# Altium footprint library 31_lib.PcbLib: 49 footprints (part 2 of 4)
Each footprint in its own frame and in the unit in brackets; x right, y up, seen from the top. Pads: shape width x height; smd on the part's side, far side on the other; paste and mask are expansions set on the pad; w line width, h text height; cw(c..) or ccw(c..) is an arc to the next point about the centre after c.
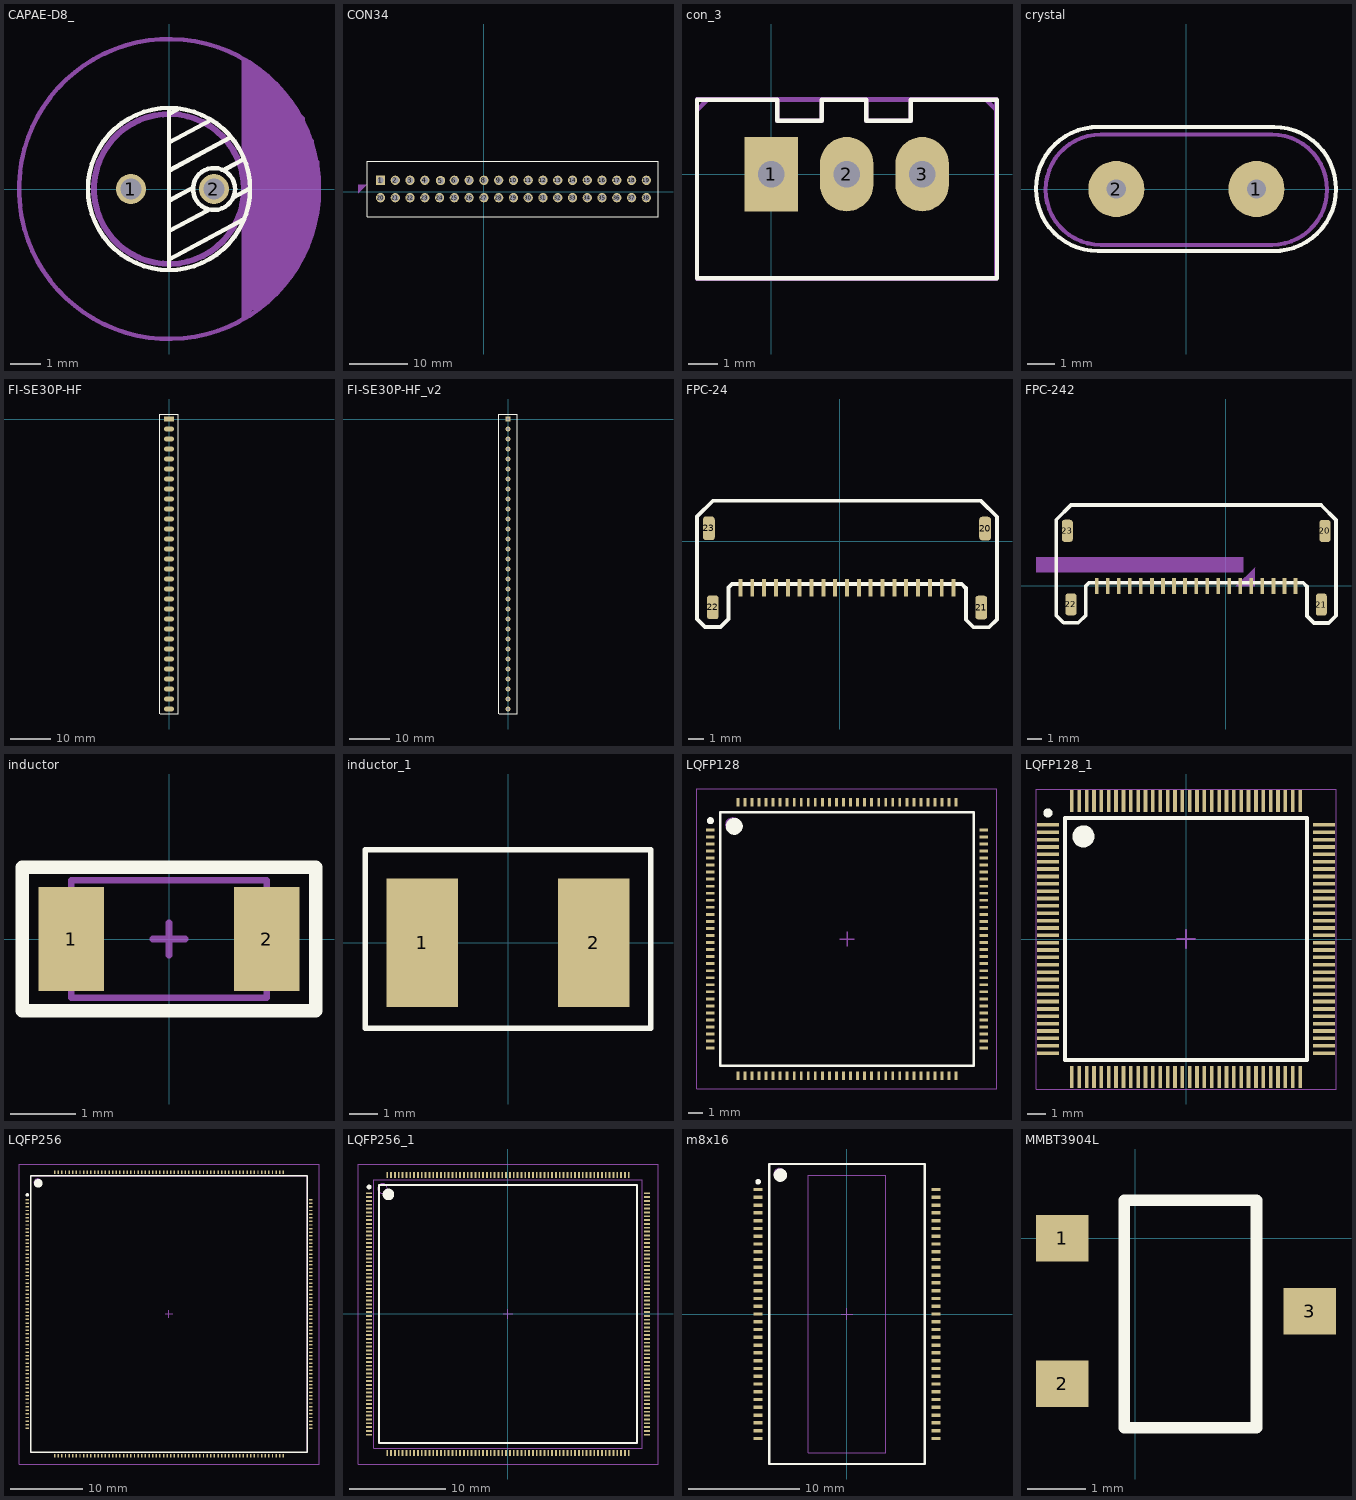
[diagram p1: the footprints below, top view; thin cyan lines are the x and y axes]

## CAPAE-D8_ [mm]
height 7.7
pads (2):
  round 1 hole 0.7: 1(-1.27,0) 2(1.5,0)
Top Overlay:
  circle w0.15: c0,0 r2.7
  circle w0.15: c1.5,0 r0.7
  lines w0.15: 0,-2.7 0,2.7 ; 0,-2.35 2.504,-1.007 ; 0,-1.4 1.286,-0.71 ; 0,1.55 1.399,2.301 ; 0,2.5 0.28,2.65 ; 0.025,-0.375 0.783,0.032 ; 0.025,0.625 2.048,1.711 ; 1.868,0.659 2.501,0.998 ; 2.141,-0.276 2.69,0.019
Mechanical 2:
  circle w0.2: c0,0 r2.5
Mechanical 29:
  circle w0.15: c0,0 r5
  region: 2.425,4.4 2.425,-4.35 2.475,-4.35 2.8,-4.025 3,-4.025 3.65,-3.375 3.65,-3.325 3.7,-3.325 4.05,-2.975 4.05,-2.85 4.375,-2.525 4.375,-2.275 4.6,-2.05 4.6,-1.825 4.775,-1.65 4.775,-1.175 4.95,-1 4.95,-0.15 5,-0.1 5,0.925 4.825,1.1 4.825,1.625 4.525,1.925 4.525,2.375 3.9,3 3.9,3.175 3.225,3.85
  text ".Designator" at -3.9,-0.3 h1

## CON34 [mm]
pads (38):
  rect 1.6x1.6 hole 1.1: 1(-17.72,2)
  round 1.6 hole 1.1: 2(-15.18,2) 3(-12.64,2) 4(-10.1,2) 5(-7.4,1.95) 6(-5.02,2) 7(-2.48,2) 8(0.06,2) 9(2.6,2) 10(5.14,2) 11(7.68,2) 12(10.22,2) 13(12.76,2) 14(15.3,2) 15(17.84,2) 16(20.38,2) 17(22.92,2) 18(25.46,2) 19(28,2) 20(-17.72,-1) 21(-15.18,-1) 22(-12.64,-1) 23(-10.1,-1) 24(-7.56,-1) 25(-5.02,-1) 26(-2.48,-1) 27(0.06,-1) 28(2.6,-1) 29(5.14,-1) 30(7.68,-1) 31(10.22,-1) 32(12.76,-1) 33(15.3,-1) 34(17.84,-1) 35(20.38,-1) 36(22.92,-1) 37(25.46,-1) 38(28,-1)
Top Overlay:
  lines w0.15: -20,0 -20,5.27 23.91,5.27 ; -20,1 -20,-4.27 23.91,-4.27 ; -14.19,-4.27 30,-4.27 30,1 ; -14.19,5.27 30,5.27 30,0
Mechanical 29:
  region: -21.59,1.27 -20.066,1.27 -21.59,-0.254
  text ".Designator" at -3.5,-0.3 h1

## con_3 [mm]
pads (3):
  rect 1.8x2.5 hole 0.9: 1(0,0)
  oval 1.8x2.5 hole 0.9: 2(2.54,0) 3(5.08,0)
Top Overlay:
  lines w0.15: -2.5,-3.5 7.6,-3.5 7.6,2.5 4.7,2.5 4.7,1.8 3.2,1.8 3.2,2.5 1.7,2.5 1.7,1.8 0.2,1.8 0.2,2.5 -2.5,2.5 -2.5,-3.5
Mechanical 29:
  lines w0.15: -2.5,-2.1 -2.5,1.825 ; 0.2,2.5 0.2,1.8 1.7,1.8 1.7,2.5 ; 3.2,2.5 3.2,1.8 4.7,1.8 4.7,2.5 ; 7.575,2.525 -2.5,2.525 -2.5,-3.525 7.58,-3.525 7.58,2.525 ; 7.58,-2.1 7.58,1.825 ; -2.5,-3.5 7.58,-3.5 7.58,2.15 7.23,2.5 -2.15,2.5 -2.5,2.15 -2.5,-3.5
  text ".Designator" at -1,-1.3 h1
3D body: height 7, standoff -3.5, extent -2.4,-3.375 7.5,2.375

## crystal [mil]
pads (2):
  round 80 hole 27.56: 1(100,0) 2(-100,0)
Top Overlay:
  lines w5.91: -126,-88.58 cw(c-126,0) -125.09,88.58 125,88.58 cw(c125,0) 124.07,-88.58 -126,-88.58
Mechanical 29:
  lines w5.91: -122.05,-79.72 cw(c-122.05,-0.98) -122.05,77.76 122.05,77.76 cw(c122.05,-0.98) 122.05,-79.72 -122.05,-79.72
  text ".Designator" at -125.98,-11.81 h39.37
3D body: height 137.8, standoff -118.11, extent -213.58,-89.57 211.61,87.6

## FI-SE30P-HF [mm]
pads (30):
  rect 2.5x1.2 smd: 1(0,0)
  oval 2.5x1.2 smd: 2(0,-2.5) 3(0,-5) 4(0,-7.5) 5(0,-10) 6(0,-12.5) 7(0,-15) 8(0,-17.5) 9(0,-20) 10(0,-22.5) 11(0,-25) 12(0,-27.5) 13(0,-30) 14(0,-32.5) 15(0,-35) 16(0,-37.5) 17(0,-40) 18(0,-42.5) 19(0,-45) 20(0,-47.5) 21(0,-50) 22(0,-52.5) 23(0,-55) 24(0,-57.5) 25(0,-60) 26(0,-62.5) 27(0,-65) 28(0,-67.5) 29(0,-70) 30(0,-72.5)
Top Overlay:
  lines w0.2: -2.25,-73.75 -2.25,1.25 2.25,1.25 2.25,-73.75 -2.25,-73.75

## FI-SE30P-HF_v2 [mm]
pads (30):
  rect 1.2x1.2 hole 0.8: 1(0,0)
  round 1.2 hole 0.8: 2(0,-2.5) 3(0,-5) 4(0,-7.5) 5(0,-10) 6(0,-12.5) 7(0,-15) 8(0,-17.5) 9(0,-20) 10(0,-22.5) 11(0,-25) 12(0,-27.5) 13(0,-30) 14(0,-32.5) 15(0,-35) 16(0,-37.5) 17(0,-40) 18(0,-42.5) 19(0,-45) 20(0,-47.5) 21(0,-50) 22(0,-52.5) 23(0,-55) 24(0,-57.5) 25(0,-60) 26(0,-62.5) 27(0,-65) 28(0,-67.5) 29(0,-70) 30(0,-72.5)
Top Overlay:
  lines w0.2: -2.25,-73.75 -2.25,1.25 2.25,1.25 2.25,-73.75 -2.25,-73.75

## FPC-24 [mm]
pads (23):
  rect 0.25x1.1 smd: 1(7.2,-2.95) 2(6.45,-2.95) 3(5.7,-2.95) 4(4.95,-2.95) 5(4.2,-2.95) 6(3.45,-2.95) 7(2.7,-2.95) 8(1.95,-2.95) 9(1.2,-2.95) 10(0.45,-2.95) 11(-0.3,-2.95) 12(-1.05,-2.95) 13(-1.8,-2.95) 14(-2.55,-2.95) 15(-3.3,-2.95) 16(-4.05,-2.95) 17(-4.8,-2.95) 18(-5.55,-2.95) 19(-6.3,-2.95)
  rrect50% 0.75x1.5 all layers, no hole: 20(9.2,0.788) 21(8.95,-4.212) 22(-8.05,-4.2) 23(-8.3,0.8)
Top Overlay:
  lines w0.25: 7.7,-2.725 -6.825,-2.725 -7.05,-2.95 -7.05,-4.95 -7.55,-5.45 -8.55,-5.45 -9.05,-4.95 -9.05,1.55 -8.05,2.55 8.95,2.55 ; 7.725,-2.737 7.95,-2.962 7.975,-2.987 7.975,-4.988 8.45,-5.462 9.45,-5.462 9.95,-4.962 9.95,1.538 8.95,2.538

## FPC-242 [mm]
pads (23):
  rect 0.25x1.1 smd: 1(4.75,0) 2(4,0) 3(3.25,0) 4(2.5,0) 5(1.75,0) 6(1,0) 7(0.25,0) 8(-0.5,0) 9(-1.25,0) 10(-2,0) 11(-2.75,0) 12(-3.5,0) 13(-4.25,0) 14(-5,0) 15(-5.75,0) 16(-6.5,0) 17(-7.25,0) 18(-8,0) 19(-8.75,0)
  rrect50% 0.75x1.5 all layers, no hole: 20(6.75,3.738) 21(6.5,-1.262) 22(-10.5,-1.25) 23(-10.75,3.75)
Top Overlay:
  lines w0.25: 5.25,0.225 -9.275,0.225 -9.5,0 -9.5,-2 -10,-2.5 -11,-2.5 -11.5,-2 -11.5,4.5 -10.5,5.5 6.5,5.5 ; 5.275,0.213 5.5,-0.012 5.525,-0.038 5.525,-2.038 6,-2.512 7,-2.512 7.5,-2.013 7.5,4.488 6.5,5.487
Mechanical 29:
  rectangle: -12.875,0.9 1.225,1.975
  region: 2,1.275 1.975,1.25 1.975,-0.025 0.7,-0.025
  text ".Designator" at -12.5,3.2 h1

## inductor [mm]
pads (2):
  rect 1x1.6 smd: 1(-1.5,0) 2(1.5,0)
Top Overlay:
  lines w0.2: -2.25,-1.1 -2.25,1.1 2.25,1.1 2.25,-1.1 -2.25,-1.1
Mechanical 13:
  lines w0.1: -1.5,-0.9 -1.5,0.9 1.5,0.9 1.5,-0.9 -1.5,-0.9
Mechanical 15:
  lines w0.1: -0.25,0 0.25,0 ; 0,-0.25 0,0.25 ; -2.25,-1.1 2.25,-1.1 2.25,1.1 -2.25,1.1 -2.25,-1.1

## inductor_1 [mm]
pads (2):
  rect 2.5x4.5 smd: 1(-3,0) 2(3,0)
Top Overlay:
  lines w0.2: -5,-3 -5,3.25 5,3.25 5,-3 -5,-3

## LQFP128 [mm]
height 1.6
pads (128):
  rect 0.6x0.2 smd: 1(-77.6,75.65) 2(-77.6,75.15) 3(-77.6,74.65) 4(-77.6,74.15) 5(-77.6,73.65) 6(-77.6,73.15) 7(-77.6,72.65) 8(-77.6,72.15) 9(-77.6,71.65) 10(-77.6,71.15) 11(-77.6,70.65) 12(-77.6,70.15) 13(-77.6,69.65) 14(-77.6,69.15) 15(-77.6,68.65) 16(-77.6,68.15) 17(-77.6,67.65) 18(-77.6,67.15) 19(-77.6,66.65) 20(-77.6,66.15) 21(-77.6,65.65) 22(-77.6,65.15) 23(-77.6,64.65) 24(-77.6,64.15) 25(-77.6,63.65) 26(-77.6,63.15) 27(-77.6,62.65) 28(-77.6,62.15) 29(-77.6,61.65) 30(-77.6,61.15) 31(-77.6,60.65) 32(-77.6,60.15) 65(-58.2,60.15) 66(-58.2,60.65) 67(-58.2,61.15) 68(-58.2,61.65) 69(-58.2,62.15) 70(-58.2,62.65) 71(-58.2,63.15) 72(-58.2,63.65) 73(-58.2,64.15) 74(-58.2,64.65) 75(-58.2,65.15) 76(-58.2,65.65) 77(-58.2,66.15) 78(-58.2,66.65) 79(-58.2,67.15) 80(-58.2,67.65) 81(-58.2,68.15) 82(-58.2,68.65) 83(-58.2,69.15) 84(-58.2,69.65) 85(-58.2,70.15) 86(-58.2,70.65) 87(-58.2,71.15) 88(-58.2,71.65) 89(-58.2,72.15) 90(-58.2,72.65) 91(-58.2,73.15) 92(-58.2,73.65) 93(-58.2,74.15) 94(-58.2,74.65) 95(-58.2,75.15) 96(-58.2,75.65)
  rect 0.2x0.6 smd: 33(-75.65,58.2) 34(-75.15,58.2) 35(-74.65,58.2) 36(-74.15,58.2) 37(-73.65,58.2) 38(-73.15,58.2) 39(-72.65,58.2) 40(-72.15,58.2) 41(-71.65,58.2) 42(-71.15,58.2) 43(-70.65,58.2) 44(-70.15,58.2) 45(-69.65,58.2) 46(-69.15,58.2) 47(-68.65,58.2) 48(-68.15,58.2) 49(-67.65,58.2) 50(-67.15,58.2) 51(-66.65,58.2) 52(-66.15,58.2) 53(-65.65,58.2) 54(-65.15,58.2) 55(-64.65,58.2) 56(-64.15,58.2) 57(-63.65,58.2) 58(-63.15,58.2) 59(-62.65,58.2) 60(-62.15,58.2) 61(-61.65,58.2) 62(-61.15,58.2) 63(-60.65,58.2) 64(-60.15,58.2) 97(-60.15,77.6) 98(-60.65,77.6) 99(-61.15,77.6) 100(-61.65,77.6) 101(-62.15,77.6) 102(-62.65,77.6) 103(-63.15,77.6) 104(-63.65,77.6) 105(-64.15,77.6) 106(-64.65,77.6) 107(-65.15,77.6) 108(-65.65,77.6) 109(-66.15,77.6) 110(-66.65,77.6) 111(-67.15,77.6) 112(-67.65,77.6) 113(-68.15,77.6) 114(-68.65,77.6) 115(-69.15,77.6) 116(-69.65,77.6) 117(-70.15,77.6) 118(-70.65,77.6) 119(-71.15,77.6) 120(-71.65,77.6) 121(-72.15,77.6) 122(-72.65,77.6) 123(-73.15,77.6) 124(-73.65,77.6) 125(-74.15,77.6) 126(-74.65,77.6) 127(-75.15,77.6) 128(-75.65,77.6)
Top Overlay:
  circle w0.6: c-75.9,75.9 r0.3
  circle w0.25: c-77.6,76.3 r0.125
  lines w0.2: -76.9,58.9 -58.9,58.9 -58.9,76.9 -76.9,76.9 -76.9,58.9
Mechanical 13:
  circle w0.1: c-76,76 r0.5
  lines w0.1: -76.9,58.9 -58.9,58.9 -58.9,76.9 -76.9,76.9 -76.9,58.9
Mechanical 15:
  lines w0.05: -78.55,57.25 -57.25,57.25 -57.25,78.55 -78.55,78.55 -78.55,57.25
  lines w0.1: -68.4,67.9 -67.4,67.9 ; -67.9,67.4 -67.9,68.4
3D body: height 1.6, standoff 0.1, extent -76.9,58.9 -58.9,76.9

## LQFP128_1 [mm]
height 1.6
pads (128):
  rect 1.2x0.2 smd: 1(-7.5,6.2) 2(-7.5,5.8) 3(-7.5,5.4) 4(-7.5,5) 5(-7.5,4.6) 6(-7.5,4.2) 7(-7.5,3.8) 8(-7.5,3.4) 9(-7.5,3) 10(-7.5,2.6) 11(-7.5,2.2) 12(-7.5,1.8) 13(-7.5,1.4) 14(-7.5,1) 15(-7.5,0.6) 16(-7.5,0.2) 17(-7.5,-0.2) 18(-7.5,-0.6) 19(-7.5,-1) 20(-7.5,-1.4) 21(-7.5,-1.8) 22(-7.5,-2.2) 23(-7.5,-2.6) 24(-7.5,-3) 25(-7.5,-3.4) 26(-7.5,-3.8) 27(-7.5,-4.2) 28(-7.5,-4.6) 29(-7.5,-5) 30(-7.5,-5.4) 31(-7.5,-5.8) 32(-7.5,-6.2) 65(7.5,-6.2) 66(7.5,-5.8) 67(7.5,-5.4) 68(7.5,-5) 69(7.5,-4.6) 70(7.5,-4.2) 71(7.5,-3.8) 72(7.5,-3.4) 73(7.5,-3) 74(7.5,-2.6) 75(7.5,-2.2) 76(7.5,-1.8) 77(7.5,-1.4) 78(7.5,-1) 79(7.5,-0.6) 80(7.5,-0.2) 81(7.5,0.2) 82(7.5,0.6) 83(7.5,1) 84(7.5,1.4) 85(7.5,1.8) 86(7.5,2.2) 87(7.5,2.6) 88(7.5,3) 89(7.5,3.4) 90(7.5,3.8) 91(7.5,4.2) 92(7.5,4.6) 93(7.5,5) 94(7.5,5.4) 95(7.5,5.8) 96(7.5,6.2)
  rect 0.2x1.2 smd: 33(-6.2,-7.5) 34(-5.8,-7.5) 35(-5.4,-7.5) 36(-5,-7.5) 37(-4.6,-7.5) 38(-4.2,-7.5) 39(-3.8,-7.5) 40(-3.4,-7.5) 41(-3,-7.5) 42(-2.6,-7.5) 43(-2.2,-7.5) 44(-1.8,-7.5) 45(-1.4,-7.5) 46(-1,-7.5) 47(-0.6,-7.5) 48(-0.2,-7.5) 49(0.2,-7.5) 50(0.6,-7.5) 51(1,-7.5) 52(1.4,-7.5) 53(1.8,-7.5) 54(2.2,-7.5) 55(2.6,-7.5) 56(3,-7.5) 57(3.4,-7.5) 58(3.8,-7.5) 59(4.2,-7.5) 60(4.6,-7.5) 61(5,-7.5) 62(5.4,-7.5) 63(5.8,-7.5) 64(6.2,-7.5) 97(6.2,7.5) 98(5.8,7.5) 99(5.4,7.5) 100(5,7.5) 101(4.6,7.5) 102(4.2,7.5) 103(3.8,7.5) 104(3.4,7.5) 105(3,7.5) 106(2.6,7.5) 107(2.2,7.5) 108(1.8,7.5) 109(1.4,7.5) 110(1,7.5) 111(0.6,7.5) 112(0.2,7.5) 113(-0.2,7.5) 114(-0.6,7.5) 115(-1,7.5) 116(-1.4,7.5) 117(-1.8,7.5) 118(-2.2,7.5) 119(-2.6,7.5) 120(-3,7.5) 121(-3.4,7.5) 122(-3.8,7.5) 123(-4.2,7.5) 124(-4.6,7.5) 125(-5,7.5) 126(-5.4,7.5) 127(-5.8,7.5) 128(-6.2,7.5)
Top Overlay:
  circle w0.25: c-7.5,6.85 r0.125
  circle w0.6: c-5.575,5.575 r0.3
  lines w0.2: -6.575,-6.575 -6.575,6.575 6.575,6.575 6.575,-6.575 -6.575,-6.575
Mechanical 15:
  lines w0.05: -8.15,-8.15 -8.15,8.15 8.15,8.15 8.15,-8.15 -8.15,-8.15
  lines w0.1: -0.5,0 0.5,0 ; 0,-0.5 0,0.5

## LQFP256 [mm]
height 1.6
pads (256):
  rect 0.5x0.2 smd: 1(-78,74.25) 2(-78,73.75) 3(-78,73.25) 4(-78,72.75) 5(-78,72.25) 6(-78,71.75) 7(-78,71.25) 8(-78,70.75) 9(-78,70.25) 10(-78,69.75) 11(-78,69.25) 12(-78,68.75) 13(-78,68.25) 14(-78,67.75) 15(-78,67.25) 16(-78,66.75) 17(-78,66.25) 18(-78,65.75) 19(-78,65.25) 20(-78,64.75) 21(-78,64.25) 22(-78,63.75) 23(-78,63.25) 24(-78,62.75) 25(-78,62.25) 26(-78,61.75) 27(-78,61.25) 28(-78,60.75) 29(-78,60.25) 30(-78,59.75) 31(-78,59.25) 32(-78,58.75) 33(-78,58.25) 34(-78,57.75) 35(-78,57.25) 36(-78,56.75) 37(-78,56.25) 38(-78,55.75) 39(-78,55.25) 40(-78,54.75) 41(-78,54.25) 42(-78,53.75) 43(-78,53.25) 44(-78,52.75) 45(-78,52.25) 46(-78,51.75) 47(-78,51.25) 48(-78,50.75) 49(-78,50.25) 50(-78,49.75) 51(-78,49.25) 52(-78,48.75) 53(-78,48.25) 54(-78,47.75) 55(-78,47.25) 56(-78,46.75) 57(-78,46.25) 58(-78,45.75) 59(-78,45.25) 60(-78,44.75) 61(-78,44.25) 62(-78,43.75) 63(-78,43.25) 64(-78,42.75) 129(-39,42.75) 130(-39,43.25) 131(-39,43.75) 132(-39,44.25) 133(-39,44.75) 134(-39,45.25) 135(-39,45.75) 136(-39,46.25) 137(-39,46.75) 138(-39,47.25) 139(-39,47.75) 140(-39,48.25) 141(-39,48.75) 142(-39,49.25) 143(-39,49.75) 144(-39,50.25) 145(-39,50.75) 146(-39,51.25) 147(-39,51.75) 148(-39,52.25) 149(-39,52.75) 150(-39,53.25) 151(-39,53.75) 152(-39,54.25) 153(-39,54.75) 154(-39,55.25) 155(-39,55.75) 156(-39,56.25) 157(-39,56.75) 158(-39,57.25) 159(-39,57.75) 160(-39,58.25) 161(-39,58.75) 162(-39,59.25) 163(-39,59.75) 164(-39,60.25) 165(-39,60.75) 166(-39,61.25) 167(-39,61.75) 168(-39,62.25) 169(-39,62.75) 170(-39,63.25) 171(-39,63.75) 172(-39,64.25) 173(-39,64.75) 174(-39,65.25) 175(-39,65.75) 176(-39,66.25) 177(-39,66.75) 178(-39,67.25) 179(-39,67.75) 180(-39,68.25) 181(-39,68.75) 182(-39,69.25) 183(-39,69.75) 184(-39,70.25) 185(-39,70.75) 186(-39,71.25) 187(-39,71.75) 188(-39,72.25) 189(-39,72.75) 190(-39,73.25) 191(-39,73.75) 192(-39,74.25)
  rect 0.2x0.5 smd: 65(-74.25,39) 66(-73.75,39) 67(-73.25,39) 68(-72.75,39) 69(-72.25,39) 70(-71.75,39) 71(-71.25,39) 72(-70.75,39) 73(-70.25,39) 74(-69.75,39) 75(-69.25,39) 76(-68.75,39) 77(-68.25,39) 78(-67.75,39) 79(-67.25,39) 80(-66.75,39) 81(-66.25,39) 82(-65.75,39) 83(-65.25,39) 84(-64.75,39) 85(-64.25,39) 86(-63.75,39) 87(-63.25,39) 88(-62.75,39) 89(-62.25,39) 90(-61.75,39) 91(-61.25,39) 92(-60.75,39) 93(-60.25,39) 94(-59.75,39) 95(-59.25,39) 96(-58.75,39) 97(-58.25,39) 98(-57.75,39) 99(-57.25,39) 100(-56.75,39) 101(-56.25,39) 102(-55.75,39) 103(-55.25,39) 104(-54.75,39) 105(-54.25,39) 106(-53.75,39) 107(-53.25,39) 108(-52.75,39) 109(-52.25,39) 110(-51.75,39) 111(-51.25,39) 112(-50.75,39) 113(-50.25,39) 114(-49.75,39) 115(-49.25,39) 116(-48.75,39) 117(-48.25,39) 118(-47.75,39) 119(-47.25,39) 120(-46.75,39) 121(-46.25,39) 122(-45.75,39) 123(-45.25,39) 124(-44.75,39) 125(-44.25,39) 126(-43.75,39) 127(-43.25,39) 128(-42.75,39) 193(-42.75,78) 194(-43.25,78) 195(-43.75,78) 196(-44.25,78) 197(-44.75,78) 198(-45.25,78) 199(-45.75,78) 200(-46.25,78) 201(-46.75,78) 202(-47.25,78) 203(-47.75,78) 204(-48.25,78) 205(-48.75,78) 206(-49.25,78) 207(-49.75,78) 208(-50.25,78) 209(-50.75,78) 210(-51.25,78) 211(-51.75,78) 212(-52.25,78) 213(-52.75,78) 214(-53.25,78) 215(-53.75,78) 216(-54.25,78) 217(-54.75,78) 218(-55.25,78) 219(-55.75,78) 220(-56.25,78) 221(-56.75,78) 222(-57.25,78) 223(-57.75,78) 224(-58.25,78) 225(-58.75,78) 226(-59.25,78) 227(-59.75,78) 228(-60.25,78) 229(-60.75,78) 230(-61.25,78) 231(-61.75,78) 232(-62.25,78) 233(-62.75,78) 234(-63.25,78) 235(-63.75,78) 236(-64.25,78) 237(-64.75,78) 238(-65.25,78) 239(-65.75,78) 240(-66.25,78) 241(-66.75,78) 242(-67.25,78) 243(-67.75,78) 244(-68.25,78) 245(-68.75,78) 246(-69.25,78) 247(-69.75,78) 248(-70.25,78) 249(-70.75,78) 250(-71.25,78) 251(-71.75,78) 252(-72.25,78) 253(-72.75,78) 254(-73.25,78) 255(-73.75,78) 256(-74.25,78)
Top Overlay:
  circle w0.6: c-76.5,76.5 r0.3
  circle w0.25: c-78,74.9 r0.125
  lines w0.2: -77.5,39.5 -39.5,39.5 -39.5,77.5 -77.5,77.5 -77.5,39.5
Mechanical 13:
  circle w0.1: c-76.6,76.6 r0.5
  lines w0.1: -77.5,39.5 -39.5,39.5 -39.5,77.5 -77.5,77.5 -77.5,39.5
Mechanical 15:
  lines w0.05: -79.15,37.85 -37.85,37.85 -37.85,79.15 -79.15,79.15 -79.15,37.85
  lines w0.1: -59,58.5 -58,58.5 ; -58.5,58 -58.5,59
3D body: height 1.6, standoff 0.17, extent -77.5,39.5 -39.5,77.5

## LQFP256_1 [mm]
height 1.6
pads (256):
  rect 0.6x0.204 smd: 1(-14.5,12.6) 2(-14.5,12.2) 3(-14.5,11.8) 4(-14.5,11.4) 5(-14.5,11) 6(-14.5,10.6) 7(-14.5,10.2) 8(-14.5,9.8) 9(-14.5,9.4) 10(-14.5,9) 11(-14.5,8.6) 12(-14.5,8.2) 13(-14.5,7.8) 14(-14.5,7.4) 15(-14.5,7) 16(-14.5,6.6) 17(-14.5,6.2) 18(-14.5,5.8) 19(-14.5,5.4) 20(-14.5,5) 21(-14.5,4.6) 22(-14.5,4.2) 23(-14.5,3.8) 24(-14.5,3.4) 25(-14.5,3) 26(-14.5,2.6) 27(-14.5,2.2) 28(-14.5,1.8) 29(-14.5,1.4) 30(-14.5,1) 31(-14.5,0.6) 32(-14.5,0.2) 33(-14.5,-0.2) 34(-14.5,-0.6) 35(-14.5,-1) 36(-14.5,-1.4) 37(-14.5,-1.8) 38(-14.5,-2.2) 39(-14.5,-2.6) 40(-14.5,-3) 41(-14.5,-3.4) 42(-14.5,-3.8) 43(-14.5,-4.2) 44(-14.5,-4.6) 45(-14.5,-5) 46(-14.5,-5.4) 47(-14.5,-5.8) 48(-14.5,-6.2) 49(-14.5,-6.6) 50(-14.5,-7) 51(-14.5,-7.4) 52(-14.5,-7.8) 53(-14.5,-8.2) 54(-14.5,-8.6) 55(-14.5,-9) 56(-14.5,-9.4) 57(-14.5,-9.8) 58(-14.5,-10.2) 59(-14.5,-10.6) 60(-14.5,-11) 61(-14.5,-11.4) 62(-14.5,-11.8) 63(-14.5,-12.2) 64(-14.5,-12.6) 129(14.5,-12.6) 130(14.5,-12.2) 131(14.5,-11.8) 132(14.5,-11.4) 133(14.5,-11) 134(14.5,-10.6) 135(14.5,-10.2) 136(14.5,-9.8) 137(14.5,-9.4) 138(14.5,-9) 139(14.5,-8.6) 140(14.5,-8.2) 141(14.5,-7.8) 142(14.5,-7.4) 143(14.5,-7) 144(14.5,-6.6) 145(14.5,-6.2) 146(14.5,-5.8) 147(14.5,-5.4) 148(14.5,-5) 149(14.5,-4.6) 150(14.5,-4.2) 151(14.5,-3.8) 152(14.5,-3.4) 153(14.5,-3) 154(14.5,-2.6) 155(14.5,-2.2) 156(14.5,-1.8) 157(14.5,-1.4) 158(14.5,-1) 159(14.5,-0.6) 160(14.5,-0.2) 161(14.5,0.2) 162(14.5,0.6) 163(14.5,1) 164(14.5,1.4) 165(14.5,1.8) 166(14.5,2.2) 167(14.5,2.6) 168(14.5,3) 169(14.5,3.4) 170(14.5,3.8) 171(14.5,4.2) 172(14.5,4.6) 173(14.5,5) 174(14.5,5.4) 175(14.5,5.8) 176(14.5,6.2) 177(14.5,6.6) 178(14.5,7) 179(14.5,7.4) 180(14.5,7.8) 181(14.5,8.2) 182(14.5,8.6) 183(14.5,9) 184(14.5,9.4) 185(14.5,9.8) 186(14.5,10.2) 187(14.5,10.6) 188(14.5,11) 189(14.5,11.4) 190(14.5,11.8) 191(14.5,12.2) 192(14.5,12.6)
  rect 0.204x0.6 smd: 65(-12.6,-14.5) 66(-12.2,-14.5) 67(-11.8,-14.5) 68(-11.4,-14.5) 69(-11,-14.5) 70(-10.6,-14.5) 71(-10.2,-14.5) 72(-9.8,-14.5) 73(-9.4,-14.5) 74(-9,-14.5) 75(-8.6,-14.5) 76(-8.2,-14.5) 77(-7.8,-14.5) 78(-7.4,-14.5) 79(-7,-14.5) 80(-6.6,-14.5) 81(-6.2,-14.5) 82(-5.8,-14.5) 83(-5.4,-14.5) 84(-5,-14.5) 85(-4.6,-14.5) 86(-4.2,-14.5) 87(-3.8,-14.5) 88(-3.4,-14.5) 89(-3,-14.5) 90(-2.6,-14.5) 91(-2.2,-14.5) 92(-1.8,-14.5) 93(-1.4,-14.5) 94(-1,-14.5) 95(-0.6,-14.5) 96(-0.2,-14.5) 97(0.2,-14.5) 98(0.6,-14.5) 99(1,-14.5) 100(1.4,-14.5) 101(1.8,-14.5) 102(2.2,-14.5) 103(2.6,-14.5) 104(3,-14.5) 105(3.4,-14.5) 106(3.8,-14.5) 107(4.2,-14.5) 108(4.6,-14.5) 109(5,-14.5) 110(5.4,-14.5) 111(5.8,-14.5) 112(6.2,-14.5) 113(6.6,-14.5) 114(7,-14.5) 115(7.4,-14.5) 116(7.8,-14.5) 117(8.2,-14.5) 118(8.6,-14.5) 119(9,-14.5) 120(9.4,-14.5) 121(9.8,-14.5) 122(10.2,-14.5) 123(10.6,-14.5) 124(11,-14.5) 125(11.4,-14.5) 126(11.8,-14.5) 127(12.2,-14.5) 128(12.6,-14.5) 193(12.6,14.5) 194(12.2,14.5) 195(11.8,14.5) 196(11.4,14.5) 197(11,14.5) 198(10.6,14.5) 199(10.2,14.5) 200(9.8,14.5) 201(9.4,14.5) 202(9,14.5) 203(8.6,14.5) 204(8.2,14.5) 205(7.8,14.5) 206(7.4,14.5) 207(7,14.5) 208(6.6,14.5) 209(6.2,14.5) 210(5.8,14.5) 211(5.4,14.5) 212(5,14.5) 213(4.6,14.5) 214(4.2,14.5) 215(3.8,14.5) 216(3.4,14.5) 217(3,14.5) 218(2.6,14.5) 219(2.2,14.5) 220(1.8,14.5) 221(1.4,14.5) 222(1,14.5) 223(0.6,14.5) 224(0.2,14.5) 225(-0.2,14.5) 226(-0.6,14.5) 227(-1,14.5) 228(-1.4,14.5) 229(-1.8,14.5) 230(-2.2,14.5) 231(-2.6,14.5) 232(-3,14.5) 233(-3.4,14.5) 234(-3.8,14.5) 235(-4.2,14.5) 236(-4.6,14.5) 237(-5,14.5) 238(-5.4,14.5) 239(-5.8,14.5) 240(-6.2,14.5) 241(-6.6,14.5) 242(-7,14.5) 243(-7.4,14.5) 244(-7.8,14.5) 245(-8.2,14.5) 246(-8.6,14.5) 247(-9,14.5) 248(-9.4,14.5) 249(-9.8,14.5) 250(-10.2,14.5) 251(-10.6,14.5) 252(-11,14.5) 253(-11.4,14.5) 254(-11.8,14.5) 255(-12.2,14.5) 256(-12.6,14.5)
Top Overlay:
  circle w0.25: c-14.5,13.252 r0.125
  circle w0.6: c-12.475,12.475 r0.3
  lines w0.2: -13.475,-13.475 -13.475,13.475 13.475,13.475 13.475,-13.475 -13.475,-13.475
Mechanical 13:
  circle w0.1: c-13.1,13.1 r0.5
  lines w0.1: -14,-14 -14,14 14,14 14,-14 -14,-14
Mechanical 15:
  lines w0.05: -15.65,-15.65 -15.65,15.65 15.65,15.65 15.65,-15.65 -15.65,-15.65
  lines w0.1: -0.5,0 0.5,0 ; 0,-0.5 0,0.5
3D body: height 1.6, standoff 0.17, extent -14,-14 14,14

## m8x16 [mm]
height 3
pads (66):
  rect 0.8x0.3 smd: 1(-8,11.2) 2(-8,10.5) 3(-8,9.8) 4(-8,9.1) 5(-8,8.4) 6(-8,7.7) 7(-8,7) 8(-8,6.3) 9(-8,5.6) 10(-8,4.9) 11(-8,4.2) 12(-8,3.5) 13(-8,2.8) 14(-8,2.1) 15(-8,1.4) 16(-8,0.7) 17(-8,0) 18(-8,-0.7) 19(-8,-1.4) 20(-8,-2.1) 21(-8,-2.8) 22(-8,-3.5) 23(-8,-4.2) 24(-8,-4.9) 25(-8,-5.6) 26(-8,-6.3) 27(-8,-7) 28(-8,-7.7) 29(-8,-8.4) 30(-8,-9.1) 31(-8,-9.8) 32(-8,-10.5) 33(-8,-11.2) 34(8,-11.2) 35(8,-10.5) 36(8,-9.8) 37(8,-9.1) 38(8,-8.4) 39(8,-7.7) 40(8,-7) 41(8,-6.3) 42(8,-5.6) 43(8,-4.9) 44(8,-4.2) 45(8,-3.5) 46(8,-2.8) 47(8,-2.1) 48(8,-1.4) 49(8,-0.7) 50(8,0) 51(8,0.7) 52(8,1.4) 53(8,2.1) 54(8,2.8) 55(8,3.5) 56(8,4.2) 57(8,4.9) 58(8,5.6) 59(8,6.3) 60(8,7) 61(8,7.7) 62(8,8.4) 63(8,9.1) 64(8,9.8) 65(8,10.5) 66(8,11.2)
Top Overlay:
  circle w0.6: c-6,12.5 r0.3
  circle w0.25: c-8,11.9 r0.125
  lines w0.2: -7,-13.5 7,-13.5 7,13.5 -7,13.5 -7,-13.5
Mechanical 13:
  circle w0.1: c-6.1,12.6 r0.5
  lines w0.1: -7,-13.5 7,-13.5 7,13.5 -7,13.5 -7,-13.5
Mechanical 15:
  lines w0.05: -3.5,-12.5 3.5,-12.5 3.5,12.5 -3.5,12.5 -3.5,-12.5
  lines w0.1: -0.5,0 0.5,0 ; 0,-0.5 0,0.5
3D body: height 3, standoff 0.3, extent -7,-13.5 7,13.5

## MMBT3904L [mm]
pads (3):
  rect 0.9x0.8 smd: 1(-1.25,0) 2(-1.25,-2.5) 3(3,-1.25)
Top Overlay:
  lines w0.2: 0.625,0.65 2.085,0.65 2.085,-3.25 -0.185,-3.25 -0.185,0.65 1.275,0.65